# Altium footprint library PCB - SWITCH - NIDEC COPAL CJS-GULLWING.PcbLib: 1 footprints
Each footprint in its own frame and in the unit in brackets; x right, y up, seen from the top. Pads: shape width x height; smd on the part's side, far side on the other; paste and mask are expansions set on the pad; w line width, h text height; cw(c..) or ccw(c..) is an arc to the next point about the centre after c.
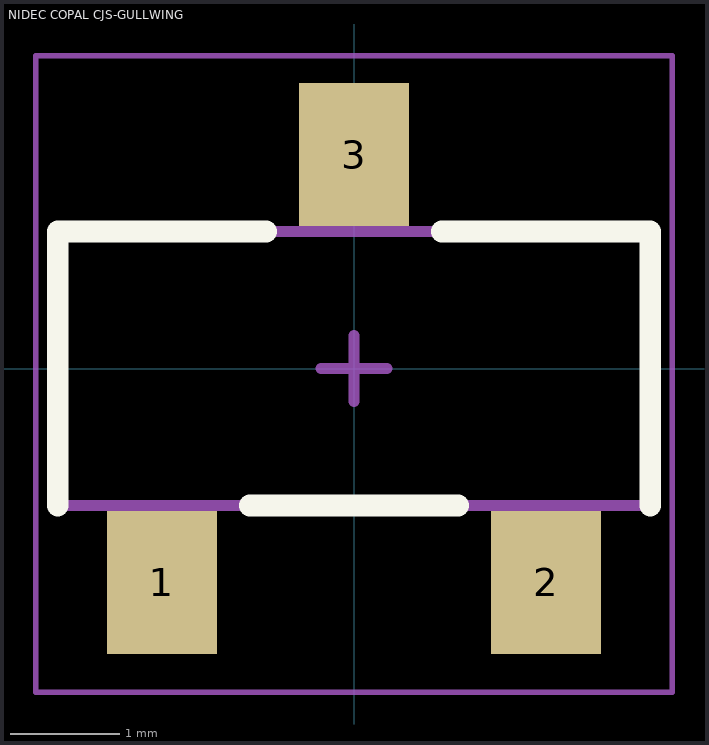
[diagram p0: the footprint, top view; thin cyan lines are the x and y axes]

## NIDEC COPAL CJS-GULLWING [mm] "Slide Switch, 3-leads, body 5.4x2.5mm, Nidec Copal CJS-1200TB"
height 2.5
pads (3):
  rect 1x1.3 smd mask+0.1: 1(-1.75,-1.95) 2(1.75,-1.95) 3(0,1.95)
Top Overlay:
  lines w0.2: -2.7,-1.25 -2.7,1.25 -0.8,1.25 ; -0.95,-1.25 0.95,-1.25 ; 0.8,1.25 2.7,1.25 2.7,-1.25
Mechanical 13:
  lines w0.1: -2.7,-1.25 2.7,-1.25 2.7,1.25 -2.7,1.25 -2.7,-1.25
Mechanical 15 (Mech15):
  lines w0.05: -2.9,-2.95 2.9,-2.95 2.9,2.85 -2.9,2.85 -2.9,-2.95
  lines w0.1: -0.3,0 0.3,0 ; 0,-0.3 0,0.3
3D body "Nidec Copal - CJS-Gullwing.step": height 2.52, standoff 0, extent -2.7,-2.1 2.7,2.1